# EAGLE library part A3984 (library rStep)
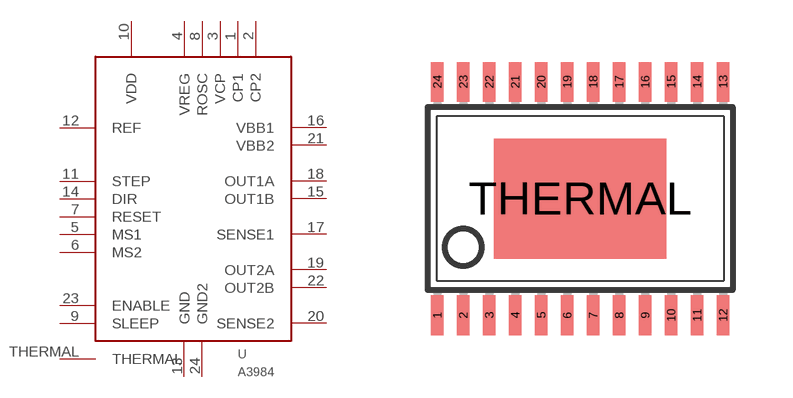
[diagram p0: symbol with the pads of TSSOP24; footprint TSSOP24]

Designator prefix -

## A3984  [TSSOP24]
1  CP1
2  CP2
3  VCP
4  VREG
5  MS1
6  MS2
7  RESET
8  ROSC
9  SLEEP
10  VDD
11  STEP
12  REF
13  GND
14  DIR
15  OUT1B
16  VBB1
17  SENSE1
18  OUT1A
19  OUT2A
20  SENSE2
21  VBB2
22  OUT2B
23  ENABLE
24  GND2
THERMAL  THERMAL

## Footprint TSSOP24 (pad centres in mm)
Thin Shrink Small Outline Plastic 24 MAX3223-MAX3243.pdf
smd 0.305 x 0.991: 1 -3.575,-2.918; 2 -2.925,-2.918; 3 -2.275,-2.918; 4 -1.625,-2.918; 5 -0.975,-2.918; 6 -0.325,-2.918; 7 0.325,-2.918; 8 0.975,-2.918; 9 1.625,-2.918; 10 2.275,-2.918; 11 2.925,-2.918; 12 3.575,-2.918; 13 3.575,2.918; 14 2.925,2.918; 15 2.275,2.918; 16 1.625,2.918; 17 0.975,2.918; 18 0.325,2.918; 19 -0.325,2.918; 20 -0.975,2.918; 21 -1.625,2.918; 22 -2.275,2.918; 23 -2.925,2.918; 24 -3.575,2.918
smd 4.32 x 3: THERMAL 0,0